# EAGLE library part AT32UC3C2512/2256/2128 (library atmel-avr32-michel)
AT32UC3C2512/2256/2128
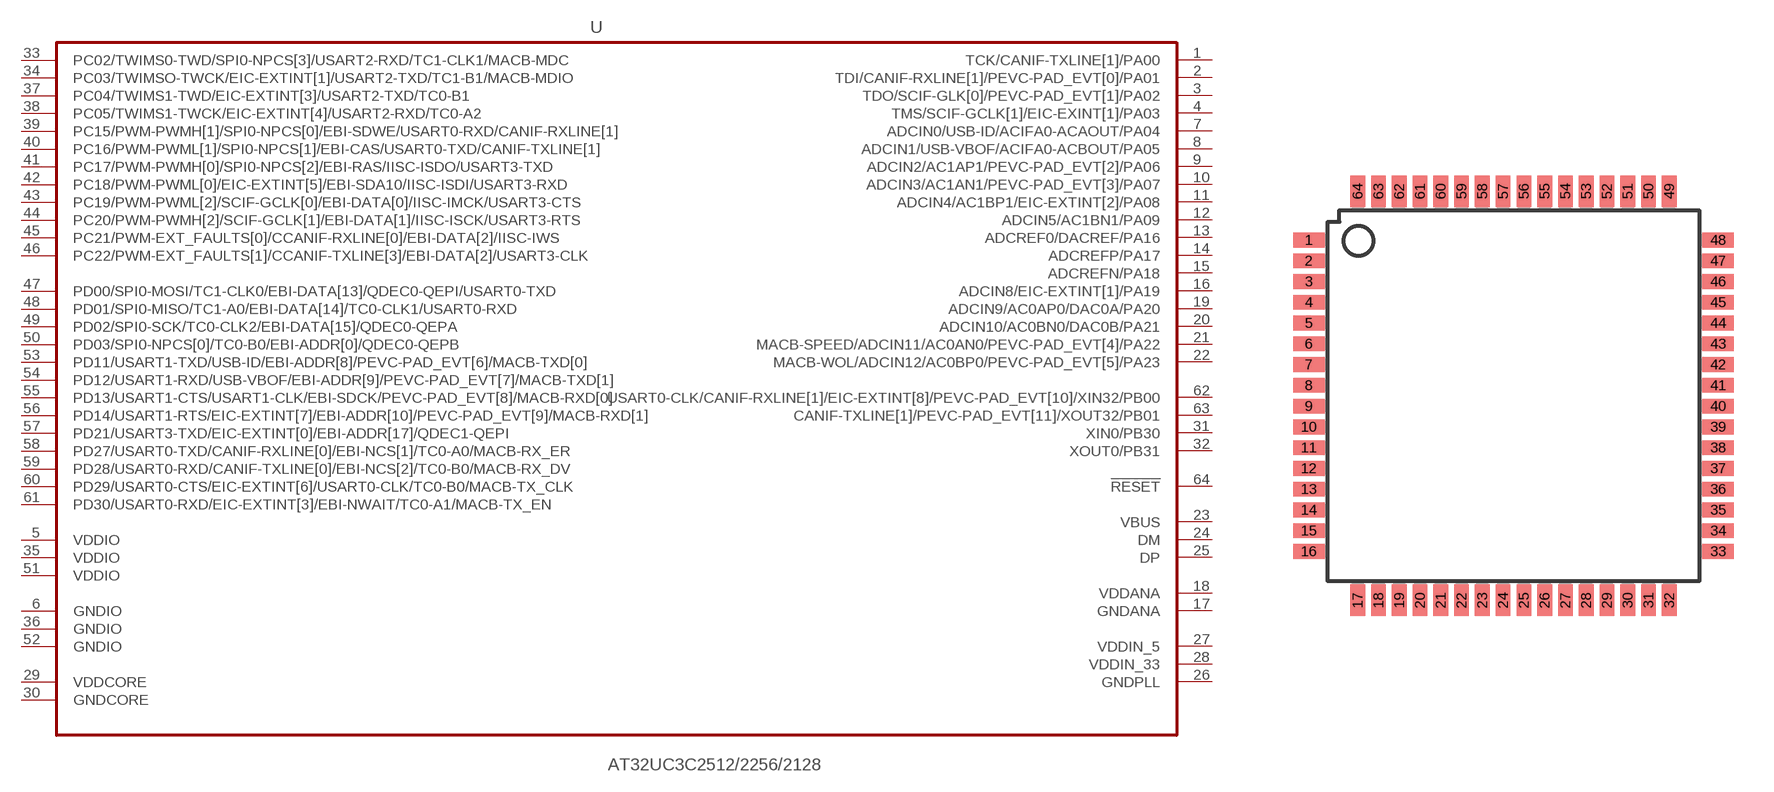
[diagram p1: symbol with the pads of TQFP64; footprint TQFP64]

Designator prefix U

## AT32UC3C2512/2256/2128  [TQFP64]
1  TCK/CANIF-TXLINE[1]/PA00
2  TDI/CANIF-RXLINE[1]/PEVC-PAD_EVT[0]/PA01
3  TDO/SCIF-GLK[0]/PEVC-PAD_EVT[1]/PA02
4  TMS/SCIF-GCLK[1]/EIC-EXINT[1]/PA03
5  VDDIO  pwr
6  GNDIO  pwr
7  ADCIN0/USB-ID/ACIFA0-ACAOUT/PA04
8  ADCIN1/USB-VBOF/ACIFA0-ACBOUT/PA05
9  ADCIN2/AC1AP1/PEVC-PAD_EVT[2]/PA06
10  ADCIN3/AC1AN1/PEVC-PAD_EVT[3]/PA07
11  ADCIN4/AC1BP1/EIC-EXTINT[2]/PA08
12  ADCIN5/AC1BN1/PA09
13  ADCREF0/DACREF/PA16
14  ADCREFP/PA17
15  ADCREFN/PA18
16  ADCIN8/EIC-EXTINT[1]/PA19
17  GNDANA  pwr
18  VDDANA  pwr
19  ADCIN9/AC0AP0/DAC0A/PA20
20  ADCIN10/AC0BN0/DAC0B/PA21
21  MACB-SPEED/ADCIN11/AC0AN0/PEVC-PAD_EVT[4]/PA22
22  MACB-WOL/ADCIN12/AC0BP0/PEVC-PAD_EVT[5]/PA23
23  VBUS
24  DM
25  DP
26  GNDPLL  pwr
27  VDDIN_5  pwr
28  VDDIN_33  pwr
29  VDDCORE  pwr
30  GNDCORE  pwr
31  XIN0/PB30
32  XOUT0/PB31
33  PC02/TWIMS0-TWD/SPI0-NPCS[3]/USART2-RXD/TC1-CLK1/MACB-MDC
34  PC03/TWIMSO-TWCK/EIC-EXTINT[1]/USART2-TXD/TC1-B1/MACB-MDIO
35  VDDIO  pwr
36  GNDIO  pwr
37  PC04/TWIMS1-TWD/EIC-EXTINT[3]/USART2-TXD/TC0-B1
38  PC05/TWIMS1-TWCK/EIC-EXTINT[4]/USART2-RXD/TC0-A2
39  PC15/PWM-PWMH[1]/SPI0-NPCS[0]/EBI-SDWE/USART0-RXD/CANIF-RXLINE[1]
40  PC16/PWM-PWML[1]/SPI0-NPCS[1]/EBI-CAS/USART0-TXD/CANIF-TXLINE[1]
41  PC17/PWM-PWMH[0]/SPI0-NPCS[2]/EBI-RAS/IISC-ISDO/USART3-TXD
42  PC18/PWM-PWML[0]/EIC-EXTINT[5]/EBI-SDA10/IISC-ISDI/USART3-RXD
43  PC19/PWM-PWML[2]/SCIF-GCLK[0]/EBI-DATA[0]/IISC-IMCK/USART3-CTS
44  PC20/PWM-PWMH[2]/SCIF-GCLK[1]/EBI-DATA[1]/IISC-ISCK/USART3-RTS
45  PC21/PWM-EXT_FAULTS[0]/CCANIF-RXLINE[0]/EBI-DATA[2]/IISC-IWS
46  PC22/PWM-EXT_FAULTS[1]/CCANIF-TXLINE[3]/EBI-DATA[2]/USART3-CLK
47  PD00/SPI0-MOSI/TC1-CLK0/EBI-DATA[13]/QDEC0-QEPI/USART0-TXD
48  PD01/SPI0-MISO/TC1-A0/EBI-DATA[14]/TC0-CLK1/USART0-RXD
49  PD02/SPI0-SCK/TC0-CLK2/EBI-DATA[15]/QDEC0-QEPA
50  PD03/SPI0-NPCS[0]/TC0-B0/EBI-ADDR[0]/QDEC0-QEPB
51  VDDIO  pwr
52  GNDIO  pwr
53  PD11/USART1-TXD/USB-ID/EBI-ADDR[8]/PEVC-PAD_EVT[6]/MACB-TXD[0]
54  PD12/USART1-RXD/USB-VBOF/EBI-ADDR[9]/PEVC-PAD_EVT[7]/MACB-TXD[1]
55  PD13/USART1-CTS/USART1-CLK/EBI-SDCK/PEVC-PAD_EVT[8]/MACB-RXD[0]
56  PD14/USART1-RTS/EIC-EXTINT[7]/EBI-ADDR[10]/PEVC-PAD_EVT[9]/MACB-RXD[1]
57  PD21/USART3-TXD/EIC-EXTINT[0]/EBI-ADDR[17]/QDEC1-QEPI
58  PD27/USART0-TXD/CANIF-RXLINE[0]/EBI-NCS[1]/TC0-A0/MACB-RX_ER
59  PD28/USART0-RXD/CANIF-TXLINE[0]/EBI-NCS[2]/TC0-B0/MACB-RX_DV
60  PD29/USART0-CTS/EIC-EXTINT[6]/USART0-CLK/TC0-B0/MACB-TX_CLK
61  PD30/USART0-RXD/EIC-EXTINT[3]/EBI-NWAIT/TC0-A1/MACB-TX_EN
62  USART0-CLK/CANIF-RXLINE[1]/EIC-EXTINT[8]/PEVC-PAD_EVT[10]/XIN32/PB00
63  CANIF-TXLINE[1]/PEVC-PAD_EVT[11]/XOUT32/PB01
64  !RESET  in

## Footprint TQFP64 (pad centres in mm)
Thin Plasic Quad Flat Package
smd 1.194 x 0.559: 1 -7.76,5.905; 2 -7.76,5.118; 3 -7.76,4.331; 4 -7.76,3.543; 5 -7.76,2.756; 6 -7.76,1.968; 7 -7.76,1.181; 8 -7.76,0.394; 9 -7.76,-0.394; 10 -7.76,-1.181; 11 -7.76,-1.968; 12 -7.76,-2.756; 13 -7.76,-3.543; 14 -7.76,-4.331; 15 -7.76,-5.118; 16 -7.76,-5.905; 33 7.76,-5.905; 34 7.76,-5.118; 35 7.76,-4.331; 36 7.76,-3.543; 37 7.76,-2.756; 38 7.76,-1.968; 39 7.76,-1.181; 40 7.76,-0.394; 41 7.76,0.394; 42 7.76,1.181; 43 7.76,1.968; 44 7.76,2.756; 45 7.76,3.543; 46 7.76,4.331; 47 7.76,5.118; 48 7.76,5.905
smd 0.559 x 1.194: 17 -5.905,-7.76; 18 -5.118,-7.76; 19 -4.331,-7.76; 20 -3.543,-7.76; 21 -2.756,-7.76; 22 -1.968,-7.76; 23 -1.181,-7.76; 24 -0.394,-7.76; 25 0.394,-7.76; 26 1.181,-7.76; 27 1.968,-7.76; 28 2.756,-7.76; 29 3.543,-7.76; 30 4.331,-7.76; 31 5.118,-7.76; 32 5.905,-7.76; 49 5.905,7.76; 50 5.118,7.76; 51 4.331,7.76; 52 3.543,7.76; 53 2.756,7.76; 54 1.968,7.76; 55 1.181,7.76; 56 0.394,7.76; 57 -0.394,7.76; 58 -1.181,7.76; 59 -1.968,7.76; 60 -2.756,7.76; 61 -3.543,7.76; 62 -4.331,7.76; 63 -5.118,7.76; 64 -5.905,7.76